# Altium footprint library CUI_TBP02R1-381-03BE.PcbLib: 1 footprints
Each footprint in its own frame and in the unit in brackets; x right, y up, seen from the top. Pads: shape width x height; smd on the part's side, far side on the other; paste and mask are expansions set on the pad; w line width, h text height; cw(c..) or ccw(c..) is an arc to the next point about the centre after c.
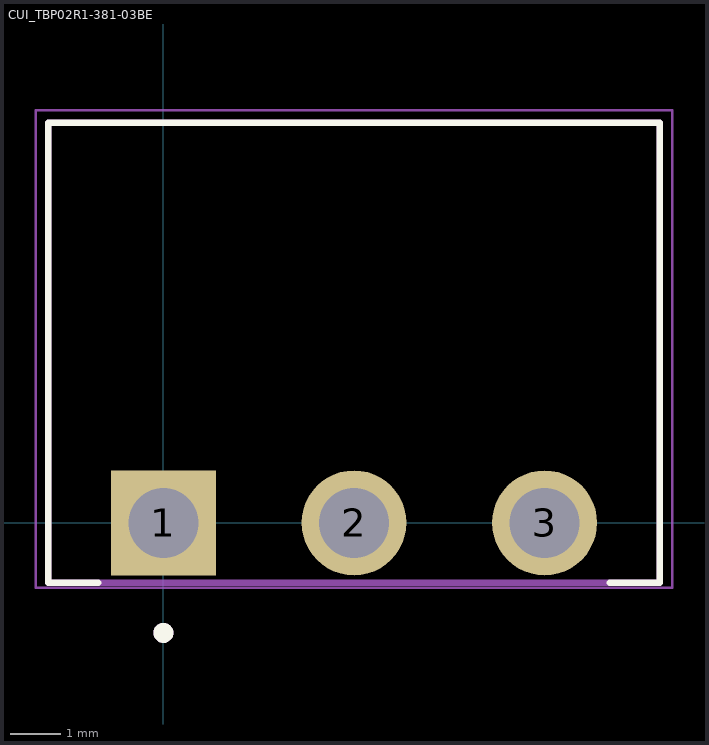
[diagram p0: the footprint, top view; thin cyan lines are the x and y axes]

## CUI_TBP02R1-381-03BE [mm]
pads (3):
  rect 2.1x2.1 / inner round 2.1 / far side rect 2.1x2.1 hole 1.4: 1(0,0)
  round 2.1 hole 1.4: 2(3.81,0) 3(7.62,0)
Top Overlay:
  circle w0.2: c0,-2.2 r0.1
  lines w0.127: -1.3,-1.2 -2.3,-1.2 -2.3,8 9.92,8 9.92,-1.2 8.92,-1.2
Assembly Top:
  circle w0.2: c0,-2.2 r0.1
  lines w0.127: -2.3,-1.2 -2.3,8 9.92,8 9.92,-1.2 -2.3,-1.2
Courtyard Top:
  lines w0.05: -2.55,-1.3 10.17,-1.3 10.17,8.25 -2.55,8.25 -2.55,-1.3
3D body "step_temp.STEP": height 7.4, standoff -3.3, extent -2.3,-1.143 9.92,8.057